# Altium schematic symbol library SnapEDAsch.SchLib: 1 symbol
Pins are listed as number, name and electrical type; pins without a type are passive.

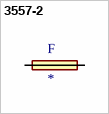
[diagram p0: symbol 3557-2]

## 3557-2
designator F
Fuse Block 30A 500V 1 Circuit Blade Through Hole; MF: Keystone Electronics; MP: 3557-2; Package: Nonstandard Keystone; Value: *; Price: None; SnapEDA_Link: https://www.snapeda.com/parts/3557-2/Keystone%20Electronics/view-part/278060/?ref=snap; Availability: Unavailable
footprint FUSE_3557-2
pins: 1 1A, 2 1B, 3 2A, 4 2B